# Altium footprint library Cuk_3ph_control.PcbLib: 43 footprints (part 2 of 3)
Each footprint in its own frame and in the unit in brackets; x right, y up, seen from the top. Pads: shape width x height; smd on the part's side, far side on the other; paste and mask are expansions set on the pad; w line width, h text height; cw(c..) or ccw(c..) is an arc to the next point about the centre after c.
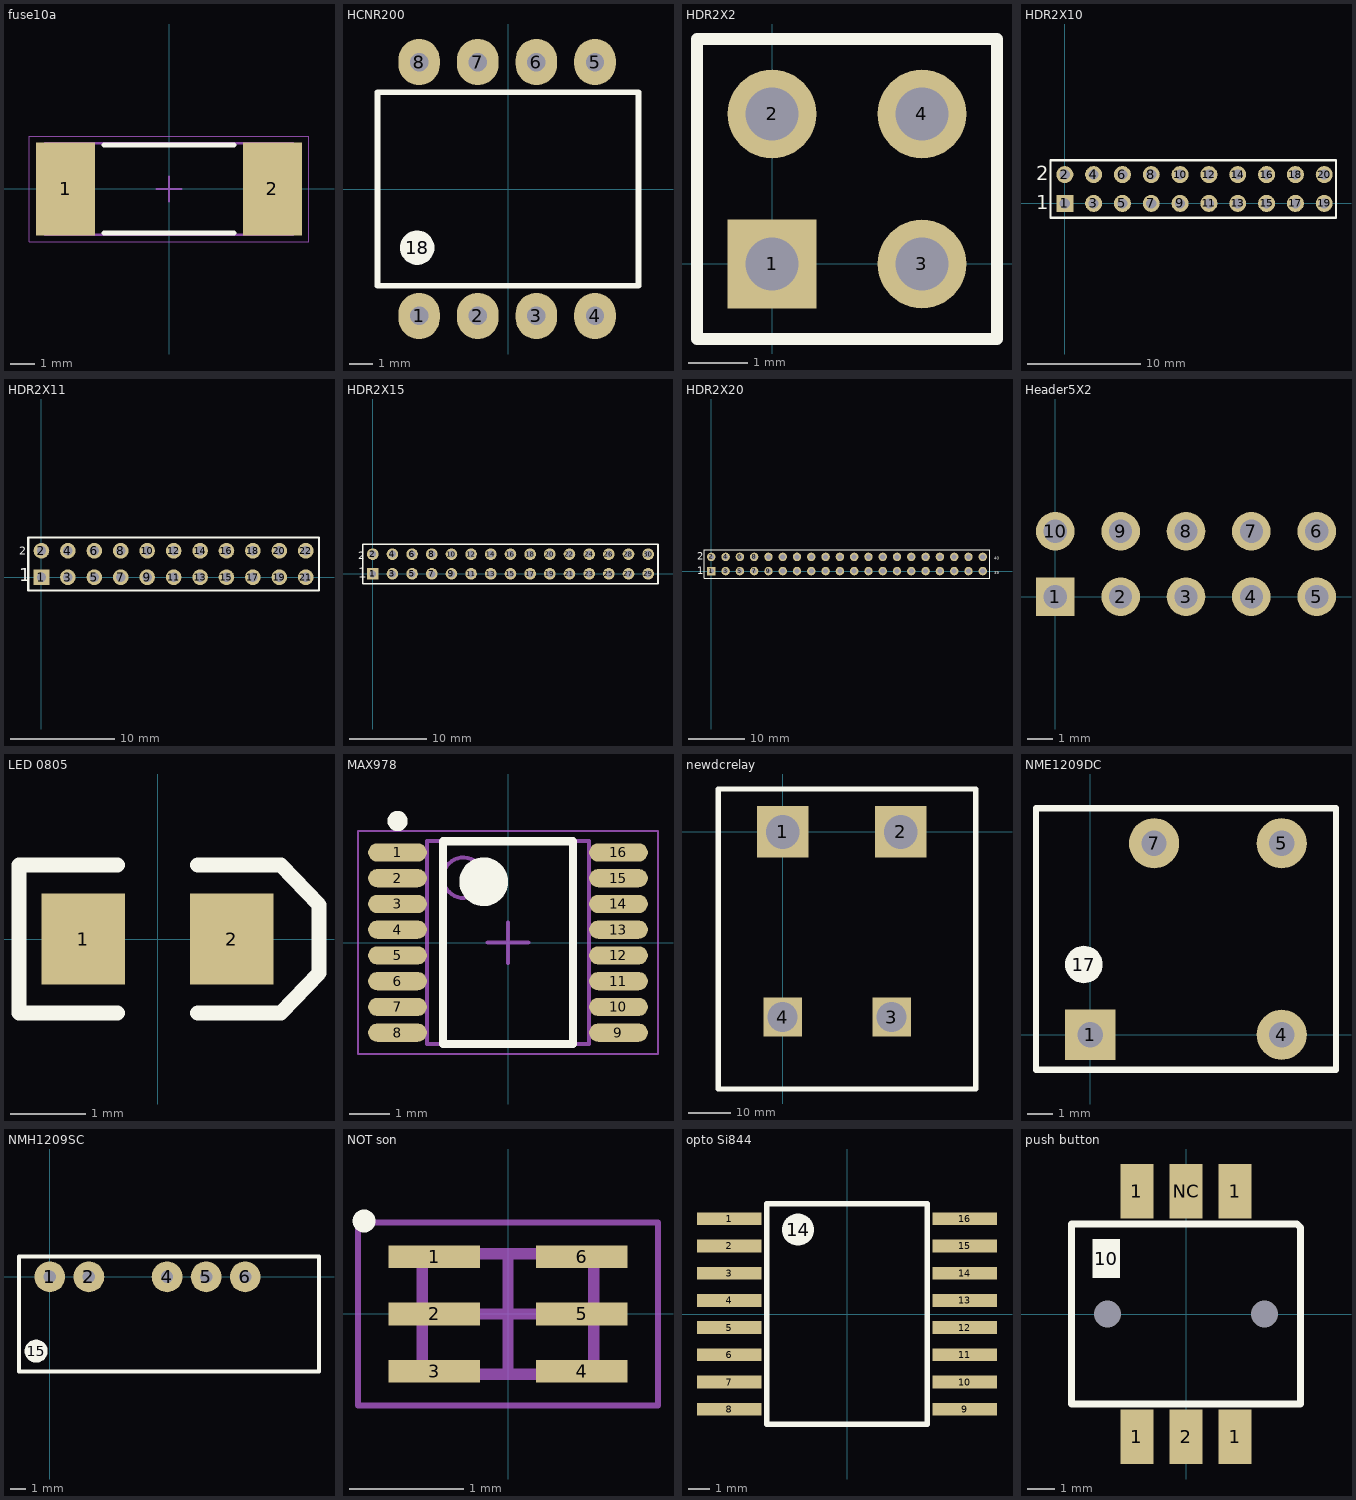
[diagram p1: the footprints below, top view; thin cyan lines are the x and y axes]

## fuse10a [mm]
height 2.37
pads (2):
  rect 2.4x3.8 smd: 1(-4.225,0) 2(4.225,0)
Top Overlay:
  lines w0.2: -2.65,-1.8 2.65,-1.8 ; -2.65,1.8 2.65,1.8
Mechanical 13:
  lines w0.1: -5.05,-1.875 -5.05,1.875 5.05,1.875 5.05,-1.875 -5.05,-1.875
Mechanical 15:
  lines w0.05: -5.7,-2.15 -5.7,2.15 5.7,2.15 5.7,-2.15 -5.7,-2.15
  lines w0.1: -0.5,0 0.5,0 ; 0,-0.5 0,0.5
3D body: height 2.37, standoff 0, extent -3.05,-1.875 3.05,1.875
3D body: height 2.37, standoff 0, extent -5.05,-1.875 -3.05,1.875
3D body: height 2.37, standoff 0, extent 3.05,-1.875 5.05,1.875

## HCNR200 [mm]
height 5
pads (9):
  oval 1.8x2 hole 0.8: 1(-3.85,-5.5) 2(-1.31,-5.5) 3(1.23,-5.5) 4(3.77,-5.5) 5(3.77,5.5) 6(1.23,5.5) 7(-1.31,5.5) 8(-3.85,5.5)
  round 1.5 on Top Overlay: 18(-3.937,-2.54)
Top Overlay:
  lines w0.254: -5.65,-4.191 5.65,-4.191 5.65,4.191 -5.65,4.191 -5.65,-4.191

## HDR2X2 [mm] "Connector; Header; 2x2 Position"
pads (4):
  rect 1.5x1.5 hole 0.9: 1(0,0)
  round 1.5 hole 0.9: 2(0,2.54) 3(2.54,0) 4(2.54,2.54)
Top Overlay:
  lines w0.2: -1.27,-1.27 3.81,-1.27 3.81,3.81 -1.27,3.81 -1.27,-1.27

## HDR2X10 [mm] "Connector; Header; 10x2 Position"
pads (20):
  rect 1.5x1.5 hole 0.9: 1(0,0)
  round 1.5 hole 0.9: 2(0,2.54) 3(2.54,0) 4(2.54,2.54) 5(5.08,0) 6(5.08,2.54) 7(7.62,0) 8(7.62,2.54) 9(10.16,0) 10(10.16,2.54) 11(12.7,0) 12(12.7,2.54) 13(15.24,0) 14(15.24,2.54) 15(17.78,0) 16(17.78,2.54) 17(20.32,0) 18(20.32,2.54) 19(22.86,0) 20(22.86,2.54)
Top Overlay:
  lines w0.2: -1.27,-1.27 0.635,-1.27 23.9,-1.27 23.9,3.81 0.635,3.81 -1.27,3.81 -1.27,-1.27
  text "1" at -2.54,-0.508 h1.27
  text "2" at -2.54,2.032 h1.27

## HDR2X11 [mm] "Connector; Header; 11x2 Position"
pads (22):
  rect 1.5x1.5 hole 0.9: 1(0,0)
  round 1.5 hole 0.9: 2(0,2.54) 3(2.54,0) 4(2.54,2.54) 5(5.08,0) 6(5.08,2.54) 7(7.62,0) 8(7.62,2.54) 9(10.16,0) 10(10.16,2.54) 11(12.7,0) 12(12.7,2.54) 13(15.24,0) 14(15.24,2.54) 15(17.78,0) 16(17.78,2.54) 17(20.32,0) 18(20.32,2.54) 19(22.86,0) 20(22.86,2.54) 21(25.4,0) 22(25.4,2.54)
Top Overlay:
  lines w0.2: -1.27,-1.27 -1.27,3.81 26.67,3.81 26.67,-1.27 -1.27,-1.27
  text "1" at -2.159,-0.381 h1.27
  text "2" at -2.159,2.159 h0.76

## HDR2X15 [mm] "Connector; Header; 15x2 Position"
pads (30):
  rect 1.5x1.5 hole 0.9: 1(0,0)
  round 1.5 hole 0.9: 2(0,2.54) 3(2.54,0) 4(2.54,2.54) 5(5.08,0) 6(5.08,2.54) 7(7.62,0) 8(7.62,2.54) 9(10.16,0) 10(10.16,2.54) 11(12.7,0) 12(12.7,2.54) 13(15.24,0) 14(15.24,2.54) 15(17.78,0) 16(17.78,2.54) 17(20.32,0) 18(20.32,2.54) 19(22.86,0) 20(22.86,2.54) 21(25.4,0) 22(25.4,2.54) 23(27.94,0) 24(27.94,2.54) 25(30.48,0) 26(30.48,2.54) 27(33.02,0) 28(33.02,2.54) 29(35.56,0) 30(35.56,2.54)
Top Overlay:
  lines w0.2: -1.27,-1.27 36.83,-1.27 36.83,3.81 -1.27,3.81 -1.27,-1.27
  text "1" at -1.905,-0.508 h1.27
  text "2" at -1.905,1.905 h1

## HDR2X20 [mm] "Connector; Header; 20x2 Position"
pads (40):
  rect 1.5x1.5 hole 0.9: 1(0,0)
  round 1.5 hole 0.9: 2(0,2.54) 3(2.54,0) 4(2.54,2.54) 5(5.08,0) 6(5.08,2.54) 7(7.62,0) 8(7.62,2.54) 9(10.16,0) 10(10.16,2.54) 11(12.7,0) 12(12.7,2.54) 13(15.24,0) 14(15.24,2.54) 15(17.78,0) 16(17.78,2.54) 17(20.32,0) 18(20.32,2.54) 19(22.86,0) 20(22.86,2.54) 21(25.4,0) 22(25.4,2.54) 23(27.94,0) 24(27.94,2.54) 25(30.48,0) 26(30.48,2.54) 27(33.02,0) 28(33.02,2.54) 29(35.56,0) 30(35.56,2.54) 31(38.1,0) 32(38.1,2.54) 33(40.64,0) 34(40.64,2.54) 35(43.18,0) 36(43.18,2.54) 37(45.72,0) 38(45.72,2.54) 39(48.26,0) 40(48.26,2.54)
Top Overlay:
  lines w0.2: -1.27,-1.27 49.53,-1.27 49.53,3.81 -1.27,3.81 -1.27,-1.27
  text "1" at -2.54,-0.508 h1.27
  text "2" at -2.54,2.032 h1.27
  text "40" at 50.292,2.032 h0.5
  text "39" at 50.292,-0.508 h0.5

## Header5X2 [mm]
pads (10):
  rect 1.5x1.5 hole 0.9: 1(0,0)
  round 1.5 hole 0.9: 2(2.54,0) 3(5.08,0) 4(7.62,0) 5(10.16,0) 6(10.16,2.54) 7(7.62,2.54) 8(5.08,2.54) 9(2.54,2.54) 10(0,2.54)

## LED 0805 [mm]
pads (2):
  rect 1.1x1.2 smd: 1(-0.98,0) 2(0.98,0)
Top Overlay:
  lines w0.2: -0.53,-0.975 -1.83,-0.975 -1.83,0.975 -0.53,0.975 ; 0.53,-0.975 1.63,-0.975 2.13,-0.45 2.13,0.45 1.63,0.975 0.53,0.975

## MAX978 [mm] "TSOP, 16-Leads, Body 4.90x3.90mm, Pitch 0.64mm, IPC Medium Density"
height 1.55
pads (16):
  oval 1.45x0.45 smd: 1(-2.725,2.222) 2(-2.725,1.587) 3(-2.725,0.953) 4(-2.725,0.318) 5(-2.725,-0.318) 6(-2.725,-0.953) 7(-2.725,-1.587) 8(-2.725,-2.222) 9(2.725,-2.222) 10(2.725,-1.587) 11(2.725,-0.953) 12(2.725,-0.318) 13(2.725,0.318) 14(2.725,0.953) 15(2.725,1.587) 16(2.725,2.222)
Top Overlay:
  circle w0.25: c-2.725,2.997 r0.125
  circle w0.6: c-0.6,1.5 r0.3
  lines w0.2: -1.6,-2.5 -1.6,2.5 1.6,2.5 1.6,-2.5 -1.6,-2.5
Mechanical 13:
  circle w0.1: c-1.1,1.6 r0.5
  lines w0.1: -2,-2.5 -2,2.5 2,2.5 2,-2.5 -2,-2.5
Mechanical 15:
  lines w0.05: -3.7,-2.75 -3.7,2.75 3.7,2.75 3.7,-2.75 -3.7,-2.75
  lines w0.1: -0.5,0 0.5,0 ; 0,-0.5 0,0.5
3D body: height 1.55, standoff 0.25, extent -2,-2.5 2,2.5

## newdcrelay [mm]
pads (4):
  rect 12x12 hole 7.9: 1(0,0) 2(27.54,0)
  rect 9x9 hole 7: 3(25.4,-43.2) 4(0,-43.2)
Top Overlay:
  lines w1.254: -15,-60 45,-60 45,10 -15,10 -15,-60

## NME1209DC [mm]
height 10
pads (5):
  rect 2x2 hole 1: 1(0,0)
  round 2 hole 1: 4(7.62,0) 5(7.62,7.62) 7(2.54,7.62)
  round 1.5 on Top Overlay: 17(-0.254,2.794)
Top Overlay:
  lines w0.254: -2.159,-1.397 9.779,-1.397 9.779,9.017 -2.159,9.017 -2.159,-1.397

## NMH1209SC [mm]
height 10
pads (6):
  round 2 hole 0.8: 1(0,0) 2(2.54,0) 4(7.62,0) 5(10.16,0) 6(12.7,0)
  round 1.5 on Top Overlay: 15(-0.889,-4.826)
Top Overlay:
  lines w0.254: -2.003,-6.163 -2.003,1.337 17.497,1.337 17.497,-6.163 -2.003,-6.163

## NOT son [mm]
height 0.6
pads (6):
  rect 0.8x0.2 smd: 1(-0.645,0.5) 2(-0.645,0) 3(-0.645,-0.5) 4(0.645,-0.5) 5(0.645,0) 6(0.645,0.5)
Top Overlay:
  circle w0.1: c-1.257,0.812 r0.05
Mechanical 13:
  lines w0.1: -0.75,-0.525 -0.75,0.525 0.75,0.525 0.75,-0.525 -0.75,-0.525
Mechanical 15:
  lines w0.05: -1.31,-0.8 -1.31,0.8 1.31,0.8 1.31,-0.8 -1.31,-0.8
  lines w0.1: -0.5,0 0.5,0 ; 0,-0.5 0,0.5
3D body: height 0.6, standoff 0.05, extent -0.75,-0.525 0.75,0.525

## opto Si844 [mm]
height 2.65
pads (17):
  rect 3x0.6 smd: 1(-5.5,4.445) 2(-5.5,3.175) 3(-5.5,1.905) 4(-5.5,0.635) 5(-5.5,-0.635) 6(-5.5,-1.905) 7(-5.5,-3.175) 8(-5.5,-4.445) 9(5.5,-4.445) 10(5.5,-3.175) 11(5.5,-1.905) 12(5.5,-0.635) 13(5.5,0.635) 14(5.5,1.905) 15(5.5,3.175) 16(5.5,4.445)
  round 1.5 on Top Overlay: 14(-2.286,3.937)
Top Overlay:
  lines w0.254: -3.75,-5.15 -3.75,5.15 3.75,5.15 3.75,-5.15 -3.75,-5.15

## push button [mm]
height 5
pads (9):
  rect 1.2x2 smd: 1(-1.8,-4.5) 1(-1.8,4.5) 1(1.8,-4.5) 1(1.8,4.5) 2(0,-4.5) NC(0,4.5)
  rect 1x1.42 on Top Overlay: 10(-2.921,2.032)
  round 0 hole 1: NC(-2.875,0) NC(2.875,0)
Top Overlay:
  lines w0.254: -4.191,-3.302 4.191,-3.302 4.191,3.175 4.159,3.207 4.064,3.302 -4.191,3.302 -4.191,-3.302